# Altium footprint library 2020-04-03_05-14-13.PcbLib: 1 footprints
Each footprint in its own frame and in the unit in brackets; x right, y up, seen from the top. Pads: shape width x height; smd on the part's side, far side on the other; paste and mask are expansions set on the pad; w line width, h text height; cw(c..) or ccw(c..) is an arc to the next point about the centre after c.
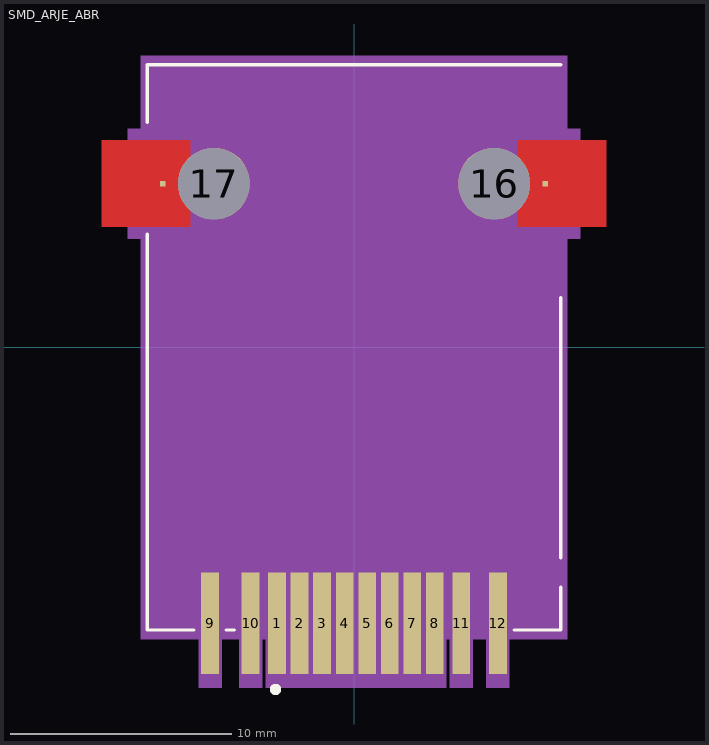
[diagram p0: the footprint, top view; thin cyan lines are the x and y axes]

## SMD_ARJE_ABR [mil]
pads (16):
  rect 32x181 smd paste+0 mask+0: 1(-137.01,-492.18) 2(-96.85,-492.18) 3(-56.69,-492.18) 4(-16.54,-492.18) 5(23.62,-492.18) 6(63.78,-492.18) 7(103.94,-492.18) 8(144.09,-492.18) 9(-256.69,-492.18) 10(-184.25,-492.18) 11(191.34,-492.18) 12(256.69,-492.18)
  rect 10x10 smd: 13(-341.34,292.11) 14(341.34,292.11)
  round 128 hole 128: 16(250,292.11) 17(-250,292.11)
Top Layer:
  region: 450,215.11 450,369.11 292.34,369.11 292.34,215.11
  region: -292.34,215.11 -292.34,369.11 -450,369.11 -450,215.11
Top Overlay:
  circle w10: c-140,-610 r5
  lines w6: -368.95,202.01 -368.95,-504.03 -285.79,-504.03 ; -368.95,401.59 -368.95,504.03 368.95,504.03 ; -227.59,-504.03 -213.35,-504.03 ; 285.79,-504.03 368.95,-504.03 368.95,-427.77 ; 368.95,-375.59 368.95,88.76
Bottom Overlay:
  circle w10: c-140,-610 r5
Top Paste:
  region: 390.34,215.11 390.34,369.11 292.34,369.11 292.34,215.11
  region: -292.34,215.11 -292.34,369.11 -390.34,369.11 -390.34,215.11
Top Solder:
  region: 390.34,369.11 292.34,369.11 292.34,215.11 390.34,215.11
  region: -292.34,215.11 -292.34,369.11 -390.34,369.11 -390.34,215.11
Mechanical 5:
  region: 84.13,-607.3 124.29,-607.3 164.45,-607.3 164.45,-520.17 170.99,-520.17 170.99,-607.3 211.69,-607.3 211.69,-520.17 236.34,-520.17 236.34,-607.3 277.05,-607.3 277.05,-520.17 380.77,-520.17 380.77,194.02 403.76,194.02 403.76,390.21 380.77,390.21 380.77,520.17 -380.77,520.17 -380.77,390.21 -403.76,390.21 -403.76,194.02 -380.77,194.02 -380.77,-520.17 -277.05,-520.17 -277.05,-607.3 -236.34,-607.3 -236.34,-520.17 -204.6,-520.17 -204.6,-607.3 -163.9,-607.3 -163.9,-520.17 -157.36,-520.17 -157.36,-607.3 -116.66,-607.3 -76.5,-607.3 -36.34,-607.3 3.82,-607.3 43.97,-607.3
Mechanical 13:
  circle w10: c-140,-610 r5
  lines w1: 234.84,-500 259.84,-550 284.84,-500 ; -366,-500 366,-500 366,500 -366,500 -366,-500
Mechanical 15:
  region: 81.52,-508.07 86.2,-508.07 86.2,-592.52 121.68,-592.52 121.68,-508.07 126.35,-508.07 126.35,-592.52 161.84,-592.52 161.84,-508.07 173.6,-508.07 173.6,-592.52 209.08,-592.52 209.08,-508.07 238.95,-508.07 238.95,-592.52 274.43,-592.52 274.43,-508.07 371.91,-508.07 371.91,206.68 395.71,206.68 395.71,377.55 371.91,377.55 371.91,508.07 -371.91,508.07 -371.91,377.55 -395.71,377.55 -395.71,206.68 -371.91,206.68 -371.91,-508.07 -274.43,-508.07 -274.43,-592.52 -238.95,-592.52 -238.95,-508.07 -201.99,-508.07 -201.99,-592.52 -166.51,-592.52 -166.51,-508.07 -154.75,-508.07 -154.75,-592.52 -119.27,-592.52 -119.27,-508.07 -114.59,-508.07 -114.59,-592.52 -79.11,-592.52 -79.11,-508.07 -74.43,-508.07 -74.43,-592.52 -38.95,-592.52 -38.95,-508.07 -34.28,-508.07 -34.28,-592.52 1.21,-592.52 1.21,-508.07 5.88,-508.07 5.88,-592.52 41.36,-592.52 41.36,-508.07 46.04,-508.07 46.04,-592.52 81.52,-592.52
  lines w6: -395.71,206.68 -395.71,377.55 -371.91,377.55 -371.91,508.07 371.91,508.07 371.91,377.55 395.71,377.55 395.71,206.68 371.91,206.68 371.91,-508.07 274.43,-508.07 274.43,-592.52 238.95,-592.52 238.95,-508.07 209.08,-508.07 209.08,-592.52 173.6,-592.52 173.6,-508.07 161.84,-508.07 161.84,-592.52 126.35,-592.52 126.35,-508.07 121.68,-508.07 121.68,-592.52 86.2,-592.52 86.2,-508.07 81.52,-508.07 81.52,-592.52 46.04,-592.52 46.04,-508.07 41.36,-508.07 41.36,-592.52 5.88,-592.52 5.88,-508.07 1.21,-508.07 1.21,-592.52 -34.28,-592.52 -34.28,-508.07 -38.95,-508.07 -38.95,-592.52 -74.43,-592.52 -74.43,-508.07 -79.11,-508.07 -79.11,-592.52 -114.59,-592.52 -114.59,-508.07 -119.27,-508.07 -119.27,-592.52 -154.75,-592.52 -154.75,-508.07 -166.51,-508.07 -166.51,-592.52 -201.99,-592.52 -201.99,-508.07 -238.95,-508.07 -238.95,-592.52 -274.43,-592.52 -274.43,-508.07 -371.91,-508.07 -371.91,206.68 -395.71,206.68